# Altium footprint library On_Board_Antenna.PcbLib: 1 footprints
Each footprint in its own frame and in the unit in brackets; x right, y up, seen from the top. Pads: shape width x height; smd on the part's side, far side on the other; paste and mask are expansions set on the pad; w line width, h text height; cw(c..) or ccw(c..) is an arc to the next point about the centre after c.
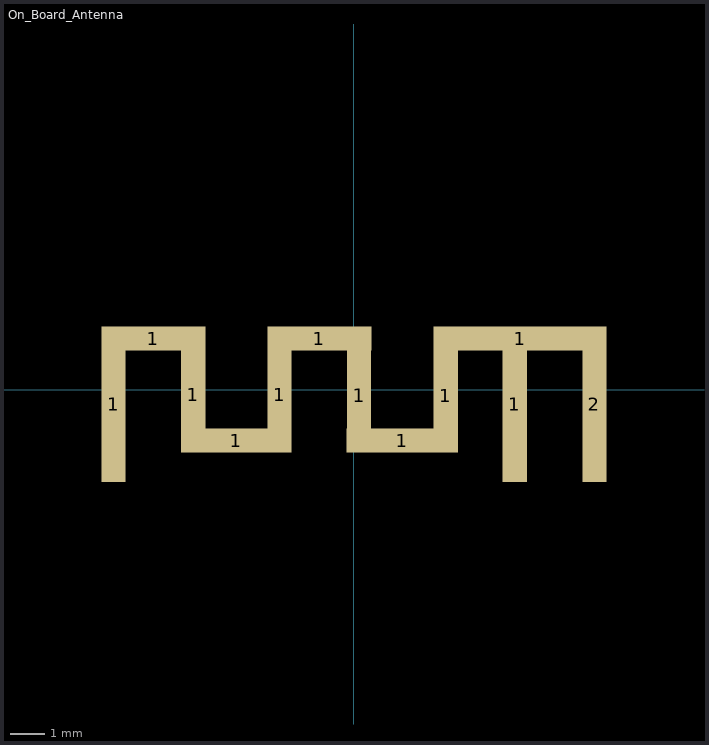
[diagram p0: the footprint, top view; thin cyan lines are the x and y axes]

## On_Board_Antenna [mm]
pads (12):
  rect 0.7x4.5 smd mask+0.102: 1(-6.95,-0.425) 1(4.65,-0.425) 2(6.95,-0.425)
  rect 3x0.7 smd mask+0.102: 1(-5.8,1.475) 1(-1,1.475)
  rect 0.7x3.3 smd mask+0.102: 1(-4.65,-0.145) 1(-2.15,-0.145) 1(2.65,-0.175)
  rect 3.2x0.7 smd mask+0.102: 1(-3.4,-1.475) 1(1.39,-1.475)
  rect 0.705x3.3 smd mask+0.102: 1(0.145,-0.175)
  rect 5x0.7 smd mask+0.102: 1(4.8,1.475)
Top Overlay:
  lines w0.2: -6.985,-2.413 -6.985,1.524 -4.699,1.524 -4.699,-1.524 -2.159,-1.524 -2.159,1.524 0.127,1.524 0.127,-1.524 2.667,-1.524 2.667,1.524 4.445,1.524 ; 4.699,-2.413 4.699,1.27 4.445,1.524 ; 6.985,-2.413 6.985,1.27 6.731,1.524 4.445,1.524
Mechanical 1:
  text ".Designator" at 0.127,0.188 h1